# Altium footprint library SON50P150X80-6N.PcbLib: 1 footprints
Each footprint in its own frame and in the unit in brackets; x right, y up, seen from the top. Pads: shape width x height; smd on the part's side, far side on the other; paste and mask are expansions set on the pad; w line width, h text height; cw(c..) or ccw(c..) is an arc to the next point about the centre after c.
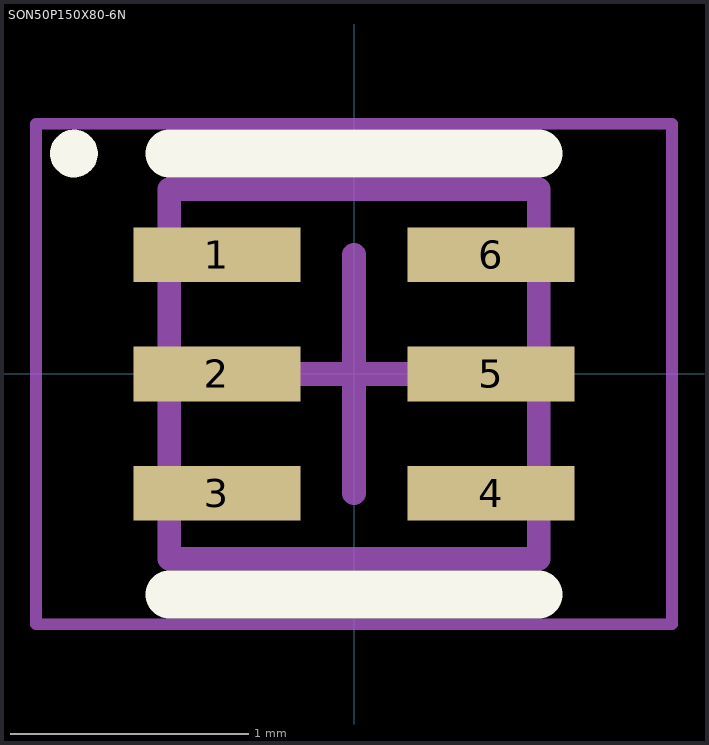
[diagram p0: the footprint, top view; thin cyan lines are the x and y axes]

## SON50P150X80-6N [mm] "SON, 6-Leads, Body 1,50x1,50mm, Pitch 0,50mm, IPC Medium Density"
height 0.8
pads (6):
  rect 0.7x0.23 smd: 1(-0.575,0.5) 2(-0.575,0) 3(-0.575,-0.5) 4(0.575,-0.5) 5(0.575,0) 6(0.575,0.5)
Top Overlay:
  circle w0.1: c-1.175,0.925 r0.05
  lines w0.2: -0.775,-0.925 0.775,-0.925 ; -0.775,0.925 0.775,0.925
Top Assembly:
  lines w0.1: -0.775,-0.775 -0.775,0.775 0.775,0.775 0.775,-0.775 -0.775,-0.775
Top Courtyard:
  lines w0.05: -1.335,-1.05 -1.335,1.05 1.335,1.05 1.335,-1.05 -1.335,-1.05
  lines w0.1: -0.5,0 0.5,0 ; 0,-0.5 0,0.5
3D body "SON50P150X80-6N.step": height 0.8, standoff 0.05, extent -0.775,-0.775 0.775,0.775